# Altium footprint library C_1206_3216.PcbLib: 1 footprints
Each footprint in its own frame and in the unit in brackets; x right, y up, seen from the top. Pads: shape width x height; smd on the part's side, far side on the other; paste and mask are expansions set on the pad; w line width, h text height; cw(c..) or ccw(c..) is an arc to the next point about the centre after c.
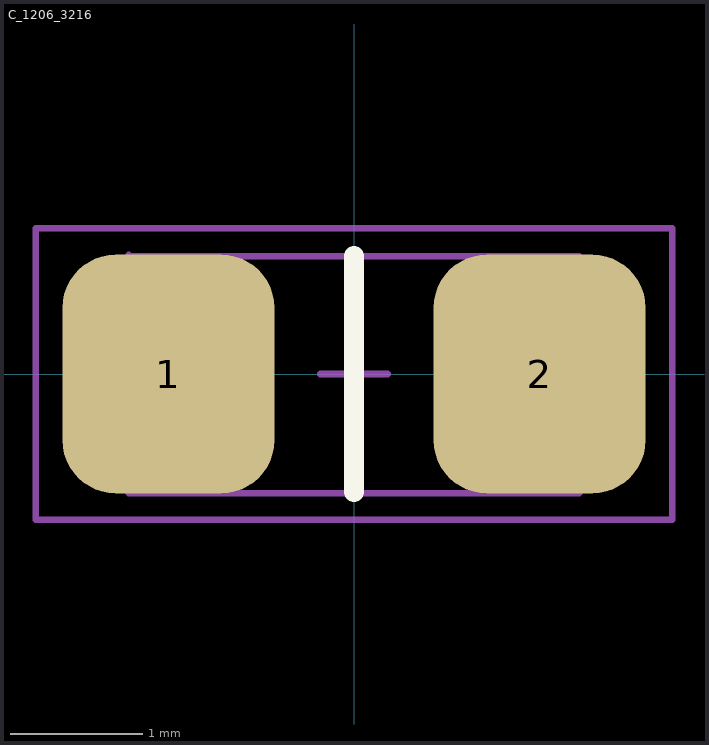
[diagram p0: the footprint, top view; thin cyan lines are the x and y axes]

## C_1206_3216 [mm]
pads (2):
  rrect50% 1.6x1.8 smd mask+0.05: 1(-1.4,0) 2(1.4,0)
Top Overlay:
  lines w0.152: 0,-0.889 0,0.889
Top Assembly:
  lines w0.05: -1.7,0.889 1.7,0.889 1.7,-0.9 -1.7,-0.9 -1.7,0.9
Top Courtyard:
  lines w0.05: -0.254,0 0.254,0 ; 0,-0.254 0,0.254 ; -2.4,-1.1 -2.4,1.1 2.4,1.1 2.4,-1.1 -2.4,-1.1
3D body "c1206c107m9pactu.stp": height 1.81, standoff 0.01, extent -1.7,-0.9 1.7,0.9